# Altium footprint library DSOBoard.PcbLib: 1 footprints
Each footprint in its own frame and in the unit in brackets; x right, y up, seen from the top. Pads: shape width x height; smd on the part's side, far side on the other; paste and mask are expansions set on the pad; w line width, h text height; cw(c..) or ccw(c..) is an arc to the next point about the centre after c.
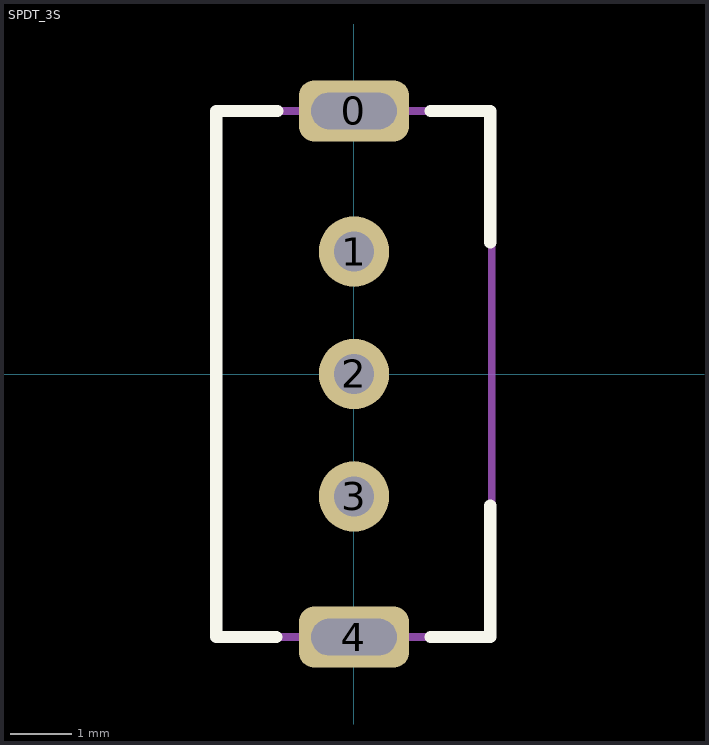
[diagram p0: the footprint, top view; thin cyan lines are the x and y axes]

## SPDT_3S [mm]
pads (5):
  rrect50% 1.8x1 hole 0.6 slot 1.4 at 0 deg: 0(0,4.3) 4(0,-4.3)
  round 1.15 hole 0.65: 1(0,2) 2(0,0) 3(0,-2)
Top Overlay:
  lines w0.2: -1.27,-4.3 -2.25,-4.3 -2.25,4.3 -1.25,4.3 ; 1.25,-4.3 2.225,-4.3 2.225,-2.15 ; 1.25,4.3 2.225,4.3 2.225,2.15
Mechanical 13:
  lines w0.127: -2.25,-4.3 -2.25,4.3 2.25,4.3 2.25,-4.3 -2.25,-4.3
3D body: height 5, standoff 0, extent -2.25,-4.3 2.25,4.275